# Altium footprint library SOD523.PcbLib: 1 footprints
Each footprint in its own frame and in the unit in brackets; x right, y up, seen from the top. Pads: shape width x height; smd on the part's side, far side on the other; paste and mask are expansions set on the pad; w line width, h text height; cw(c..) or ccw(c..) is an arc to the next point about the centre after c.
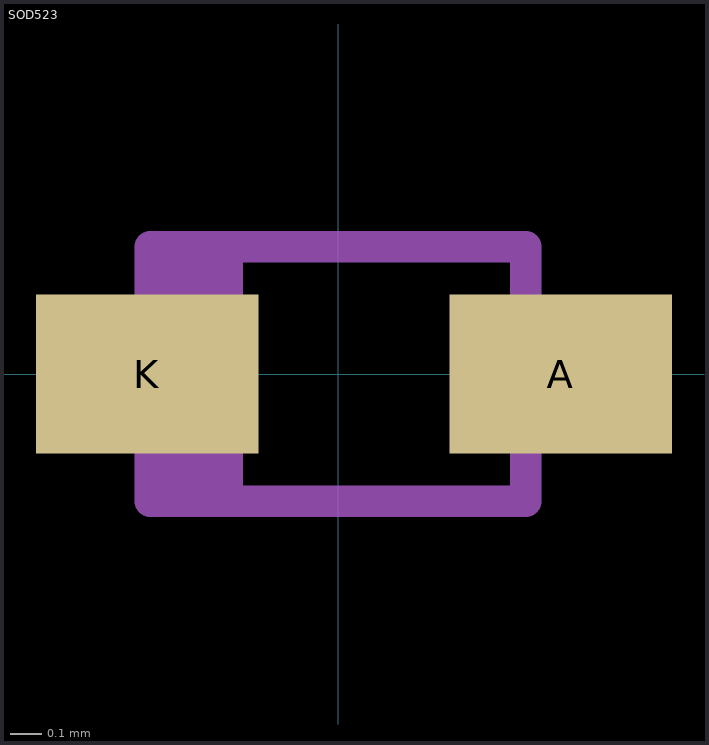
[diagram p0: the footprint, top view; thin cyan lines are the x and y axes]

## SOD523 [mm]
pads (2):
  rect 0.7x0.5 smd: A(0.7,0) K(-0.6,0)
Assembly Top:
  region: -0.3,-0.4 -0.59,-0.4 -0.59,0.4 -0.3,0.4
  region: 0.75,-0.17 0.54,-0.17 0.54,0.17 0.75,0.17
  region: -0.54,-0.17 -0.75,-0.17 -0.75,0.17 -0.54,0.17
  lines w0.1: -0.59,-0.4 -0.59,0.4 0.59,0.4 0.59,-0.4 -0.59,-0.4
3D body "step_temp.STEP": height 0.7, standoff 0, extent -0.8,-0.4 0.8,0.4